# Altium footprint library HC49-US (AT49).PcbLib: 1 footprints
Each footprint in its own frame and in the unit in brackets; x right, y up, seen from the top. Pads: shape width x height; smd on the part's side, far side on the other; paste and mask are expansions set on the pad; w line width, h text height; cw(c..) or ccw(c..) is an arc to the next point about the centre after c.
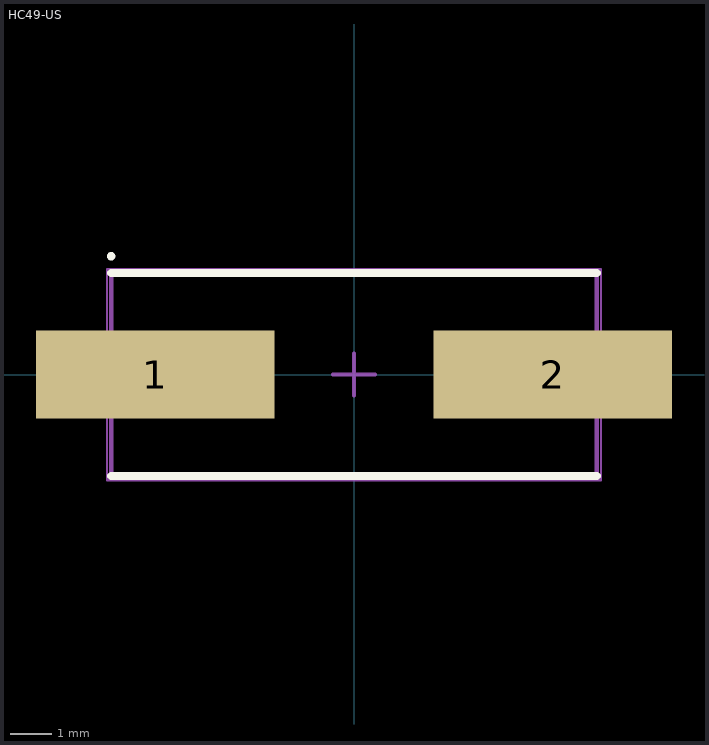
[diagram p0: the footprint, top view; thin cyan lines are the x and y axes]

## HC49-US [mm] "Low profile SMD crystal, 2-Leads, Body 4.70x11.40mm, Pitch 9.80mm, IPC High Density"
height 2.5
pads (2):
  rect 5.7x2.1 smd: 1(-4.75,0) 2(4.75,0)
Top Overlay:
  circle w0.1: c-5.8,2.825 r0.05
  lines w0.2: -5.8,-2.425 5.8,-2.425 ; -5.8,2.425 5.8,2.425
Mechanical 13:
  lines w0.1: -5.8,-2.425 5.8,-2.425 5.8,2.425 -5.8,2.425 -5.8,-2.425
Mechanical 15:
  lines w0.05: -5.9,-2.525 5.9,-2.525 5.9,2.525 -5.9,2.525 -5.9,-2.525
  lines w0.1: -0.5,0 0.5,0 ; 0,-0.5 0,0.5
3D body: height 2.5, standoff 0.1, extent -5.8,-2.425 5.8,2.425